# Altium schematic symbol library FullPin.SchLib: 62 symbols
Pins are listed as number, name and electrical type; pins without a type are passive.

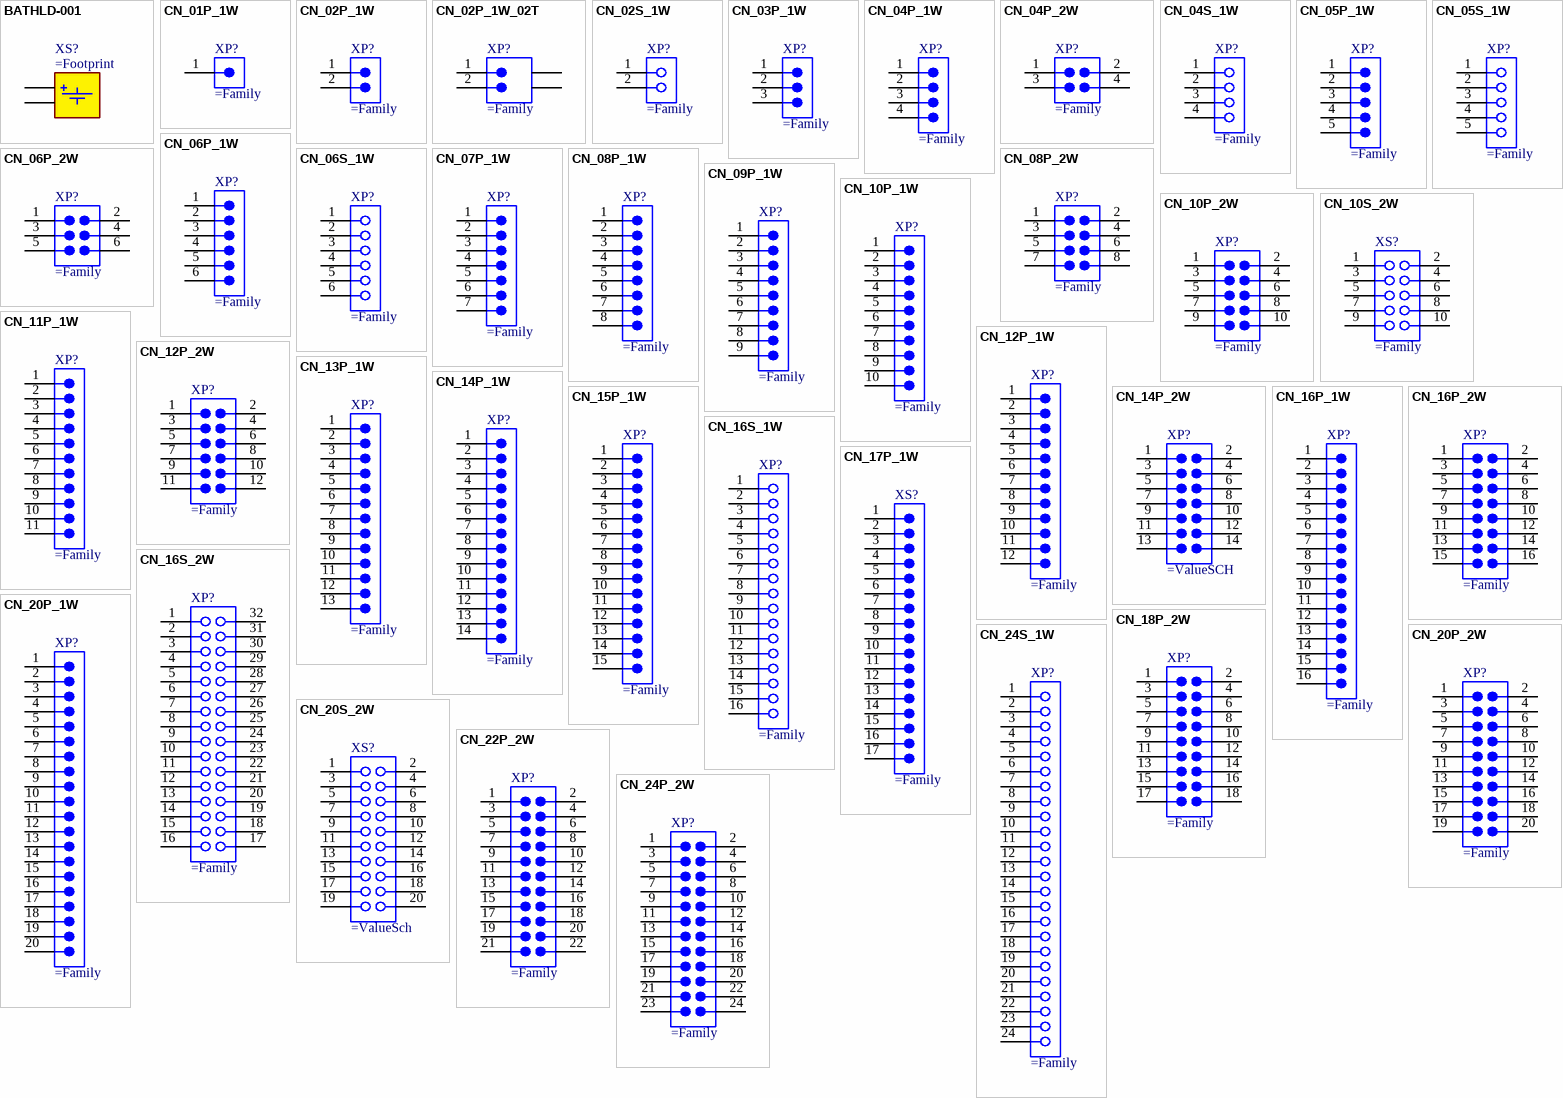
[diagram p0: symbols BATHLD-001 to CN_24S_1W]

## BATHLD-001
designator XS?
Battery Holder
pins: 1, 2

## CN_01P_1W
designator XP?
pins: 1

## CN_02P_1W
designator XP?
pins: 1, 2

## CN_02P_1W_02T
designator XP?
pins: 1, 2, T, T

## CN_02S_1W
designator XP?
pins: 1, 2

## CN_03P_1W
designator XP?
pins: 1, 2, 3

## CN_04P_1W
designator XP?
pins: 1, 2, 3, 4

## CN_04P_2W
designator XP?
pins: 1, 2, 3, 4

## CN_04S_1W
designator XP?
pins: 1, 2, 3, 4

## CN_05P_1W
designator XP?
pins: 1, 2, 3, 4, 5

## CN_05S_1W
designator XP?
pins: 1, 2, 3, 4, 5

## CN_06P_1W
designator XP?
pins: 1, 2, 3, 4, 5, 6

## CN_06P_2W
designator XP?
pins: 1, 2, 3, 4, 5, 6

## CN_06S_1W
designator XP?
pins: 1, 2, 3, 4, 5, 6

## CN_07P_1W
designator XP?
pins: 1, 2, 3, 4, 5, 6, 7

## CN_08P_1W
designator XP?
pins: 1, 2, 3, 4, 5, 6, 7, 8

## CN_08P_2W
designator XP?
pins: 1, 2, 3, 4, 5, 6, 7, 8

## CN_09P_1W
designator XP?
pins: 1, 2, 3, 4, 5, 6, 7, 8, 9

## CN_10P_1W
designator XP?
pins: 1, 2, 3, 4, 5, 6, 7, 8, 9, 10

## CN_10P_2W
designator XP?
pins: 1, 2, 3, 4, 5, 6, 7, 8, 9, 10

## CN_10S_2W
designator XS?
pins: 1, 2, 3, 4, 5, 6, 7, 8, 9, 10

## CN_11P_1W
designator XP?
pins: 1, 2, 3, 4, 5, 6, 7, 8, 9, 10, 11

## CN_12P_1W
designator XP?
pins: 1, 2, 3, 4, 5, 6, 7, 8, 9, 10, 11, 12

## CN_12P_2W
designator XP?
pins: 1, 2, 3, 4, 5, 6, 7, 8, 9, 10, 11, 12

## CN_13P_1W
designator XP?
pins: 1, 2, 3, 4, 5, 6, 7, 8, 9, 10, 11, 12, 13

## CN_14P_1W
designator XP?
pins: 1, 2, 3, 4, 5, 6, 7, 8, 9, 10, 11, 12, 13, 14

## CN_14P_2W
designator XP?
pins: 1, 2, 3, 4, 5, 6, 7, 8, 9, 10, 11, 12, 13, 14

## CN_15P_1W
designator XP?
pins: 1, 2, 3, 4, 5, 6, 7, 8, 9, 10, 11, 12, 13, 14, 15

## CN_16P_1W
designator XP?
pins: 1, 2, 3, 4, 5, 6, 7, 8, 9, 10, 11, 12, 13, 14, 15, 16

## CN_16P_2W
designator XP?
pins: 1, 2, 3, 4, 5, 6, 7, 8, 9, 10, 11, 12, 13, 14, 15, 16

## CN_16S_1W
designator XP?
pins: 1, 2, 3, 4, 5, 6, 7, 8, 9, 10, 11, 12, 13, 14, 15, 16

## CN_16S_2W
designator XP?
pins: 1, 2, 3, 4, 5, 6, 7, 8, 9, 10, 11, 12, 13, 14, 15, 16, 17, 18, 19, 20, 21, 22, 23, 24, 25, 26, 27, 28, 29, 30, 31, 32

## CN_17P_1W
designator XS?
pins: 1, 2, 3, 4, 5, 6, 7, 8, 9, 10, 11, 12, 13, 14, 15, 16, 17

## CN_18P_2W
designator XP?
pins: 1, 2, 3, 4, 5, 6, 7, 8, 9, 10, 11, 12, 13, 14, 15, 16, 17, 18

## CN_20P_1W
designator XP?
pins: 1, 2, 3, 4, 5, 6, 7, 8, 9, 10, 11, 12, 13, 14, 15, 16, 17, 18, 19, 20

## CN_20P_2W
designator XP?
pins: 1, 2, 3, 4, 5, 6, 7, 8, 9, 10, 11, 12, 13, 14, 15, 16, 17, 18, 19, 20

## CN_20S_2W
designator XS?
pins: 1, 2, 3, 4, 5, 6, 7, 8, 9, 10, 11, 12, 13, 14, 15, 16, 17, 18, 19, 20

## CN_22P_2W
designator XP?
pins: 1, 2, 3, 4, 5, 6, 7, 8, 9, 10, 11, 12, 13, 14, 15, 16, 17, 18, 19, 20, 21, 22

## CN_24P_2W
designator XP?
pins: 1, 2, 3, 4, 5, 6, 7, 8, 9, 10, 11, 12, 13, 14, 15, 16, 17, 18, 19, 20, 21, 22, 23, 24

## CN_24S_1W
designator XP?
pins: 1, 2, 3, 4, 5, 6, 7, 8, 9, 10, 11, 12, 13, 14, 15, 16, 17, 18, 19, 20, 21, 22, 23, 24

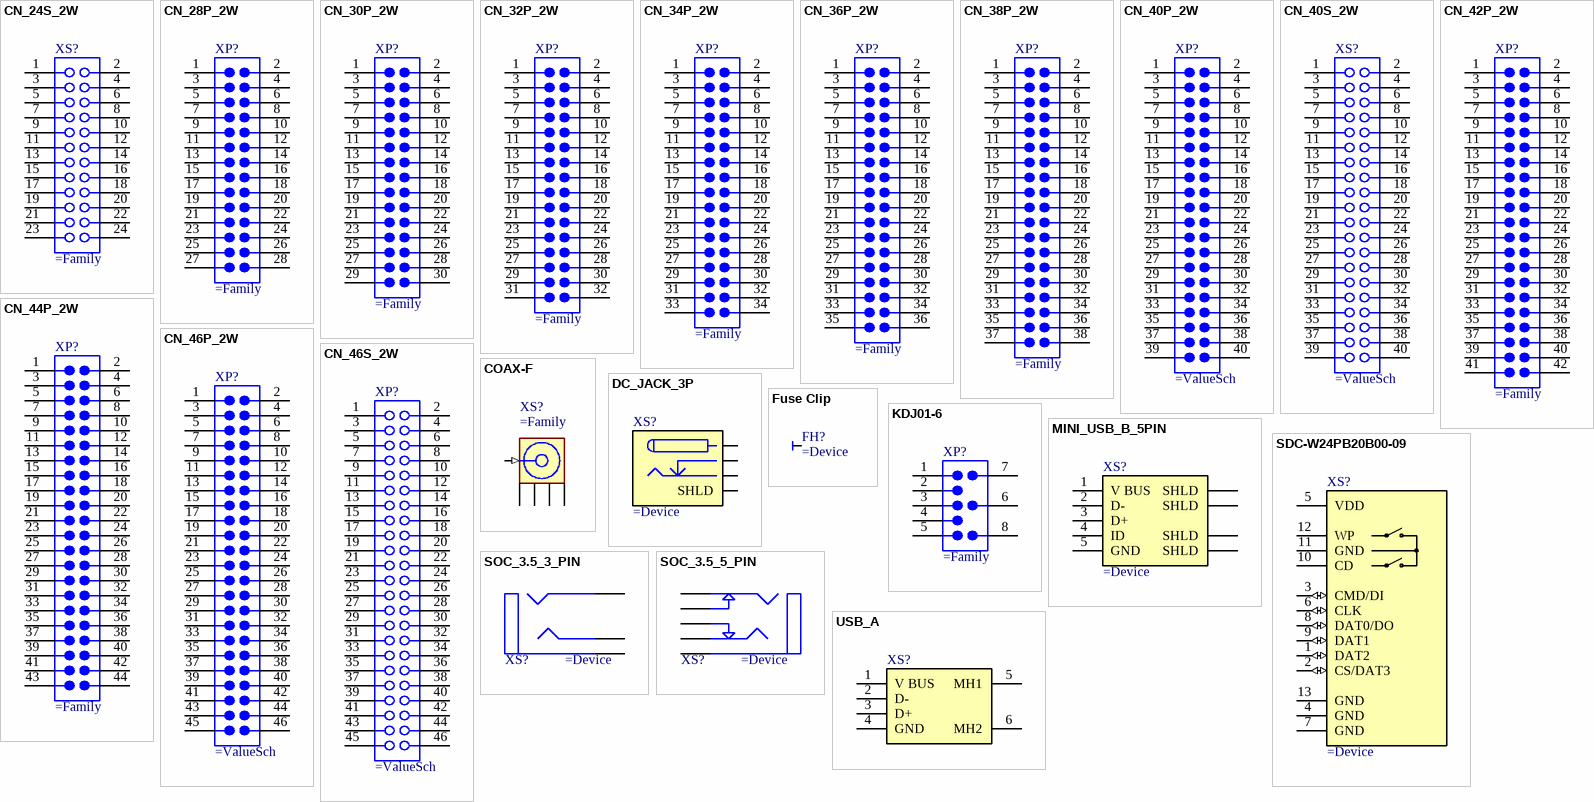
[diagram p1: symbols CN_24S_2W to USB_A]

## CN_24S_2W
designator XS?
pins: 1, 2, 3, 4, 5, 6, 7, 8, 9, 10, 11, 12, 13, 14, 15, 16, 17, 18, 19, 20, 21, 22, 23, 24

## CN_28P_2W
designator XP?
pins: 1, 2, 3, 4, 5, 6, 7, 8, 9, 10, 11, 12, 13, 14, 15, 16, 17, 18, 19, 20, 21, 22, 23, 24, 25, 26, 27, 28

## CN_30P_2W
designator XP?
pins: 1, 2, 3, 4, 5, 6, 7, 8, 9, 10, 11, 12, 13, 14, 15, 16, 17, 18, 19, 20, 21, 22, 23, 24, 25, 26, 27, 28, 29, 30

## CN_32P_2W
designator XP?
pins: 1, 2, 3, 4, 5, 6, 7, 8, 9, 10, 11, 12, 13, 14, 15, 16, 17, 18, 19, 20, 21, 22, 23, 24, 25, 26, 27, 28, 29, 30, 31, 32

## CN_34P_2W
designator XP?
pins: 1, 2, 3, 4, 5, 6, 7, 8, 9, 10, 11, 12, 13, 14, 15, 16, 17, 18, 19, 20, 21, 22, 23, 24, 25, 26, 27, 28, 29, 30, 31, 32, 33, 34

## CN_36P_2W
designator XP?
pins: 1, 2, 3, 4, 5, 6, 7, 8, 9, 10, 11, 12, 13, 14, 15, 16, 17, 18, 19, 20, 21, 22, 23, 24, 25, 26, 27, 28, 29, 30, 31, 32, 33, 34, 35, 36

## CN_38P_2W
designator XP?
pins: 1, 2, 3, 4, 5, 6, 7, 8, 9, 10, 11, 12, 13, 14, 15, 16, 17, 18, 19, 20, 21, 22, 23, 24, 25, 26, 27, 28, 29, 30, 31, 32, 33, 34, 35, 36, 37, 38

## CN_40P_2W
designator XP?
pins: 1, 2, 3, 4, 5, 6, 7, 8, 9, 10, 11, 12, 13, 14, 15, 16, 17, 18, 19, 20, 21, 22, 23, 24, 25, 26, 27, 28, 29, 30, 31, 32, 33, 34, 35, 36, 37, 38, 39, 40

## CN_40S_2W
designator XS?
pins: 1, 2, 3, 4, 5, 6, 7, 8, 9, 10, 11, 12, 13, 14, 15, 16, 17, 18, 19, 20, 21, 22, 23, 24, 25, 26, 27, 28, 29, 30, 31, 32, 33, 34, 35, 36, 37, 38, 39, 40

## CN_42P_2W
designator XP?
pins: 1, 2, 3, 4, 5, 6, 7, 8, 9, 10, 11, 12, 13, 14, 15, 16, 17, 18, 19, 20, 21, 22, 23, 24, 25, 26, 27, 28, 29, 30, 31, 32, 33, 34, 35, 36, 37, 38, 39, 40, 41, 42

## CN_44P_2W
designator XP?
pins: 1, 2, 3, 4, 5, 6, 7, 8, 9, 10, 11, 12, 13, 14, 15, 16, 17, 18, 19, 20, 21, 22, 23, 24, 25, 26, 27, 28, 29, 30, 31, 32, 33, 34, 35, 36, 37, 38, 39, 40, 41, 42, 43, 44

## CN_46P_2W
designator XP?
pins: 1, 2, 3, 4, 5, 6, 7, 8, 9, 10, 11, 12, 13, 14, 15, 16, 17, 18, 19, 20, 21, 22, 23, 24, 25, 26, 27, 28, 29, 30, 31, 32, 33, 34, 35, 36, 37, 38, 39, 40, 41, 42, 43, 44, 45, 46

## CN_46S_2W
designator XP?
pins: 1, 2, 3, 4, 5, 6, 7, 8, 9, 10, 11, 12, 13, 14, 15, 16, 17, 18, 19, 20, 21, 22, 23, 24, 25, 26, 27, 28, 29, 30, 31, 32, 33, 34, 35, 36, 37, 38, 39, 40, 41, 42, 43, 44, 45, 46

## COAX-F
designator XS?
RF Coaxial PCB Connector, MCX; Thru-Hole, Right-Angle Mount Socket, Blunt Post Terminal, 50 Ohm Impedance
pins: 1 Signal (in) "Signal Pin", 2 GND (power), 3 GND (power), 4 GND (power), 5 GND (power)

## DC_JACK_3P
designator XS?
Low Voltage Power Supply Connector
pins: 1 (power), 2 (power), 3 (power), 4 SHLD (power)

## Fuse Clip
designator FH?
pins: 1

## KDJ01-6
designator XP?
pins: 1, 2, 3, 4, 5, 6, 7, 8

## MINI_USB_B_5PIN
designator XS?
pins: 1 V BUS "USB Vcc [Red]", 2 D- "USB Data - [White]", 3 D+ "USB Data + [Green]", 4 ID, 5 GND "Ground [Black]", SHLD "Shell", SHLD "Shell", SHLD "Shell", SHLD "Shell"

## SDC-W24PB20B00-09
designator XS?
SD Card Connector
footprint SDC-W24PB20B00-09
pins: 1 DAT2 (io), 2 CS/DAT3 (io), 3 CMD/DI (io), 4 GND (power), 5 VDD (power), 6 CLK (io), 7 GND (power), 8 DAT0/DO (io), 9 DAT1 (io), 10 CD (oc), 11 GND (power), 12 WP, 13 GND (power)

## SOC_3.5_3_PIN
designator XS?
pins: 1, 2, 3

## SOC_3.5_5_PIN
designator XS?
3.5 mm Jack Connector
pins: 1, 2, 3, 4, 5

## USB_A
designator XS?
pins: 1 V BUS "USB Vcc [Red]", 2 D- "USB Data - [White]", 3 D+ "USB Data + [Green]", 4 GND "Ground [Black]", 5 MH1 "Shell", 6 MH2 "Shell"